# Altium footprint library Footprints.PcbLib: 1 footprints
Each footprint in its own frame and in the unit in brackets; x right, y up, seen from the top. Pads: shape width x height; smd on the part's side, far side on the other; paste and mask are expansions set on the pad; w line width, h text height; cw(c..) or ccw(c..) is an arc to the next point about the centre after c.
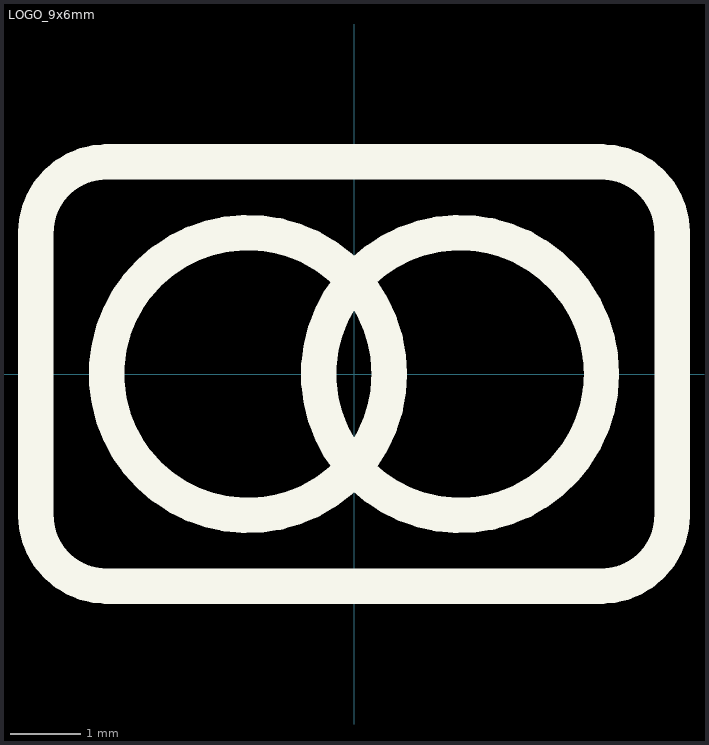
[diagram p0: the footprint, top view; thin cyan lines are the x and y axes]

## LOGO_9x6mm [mm]
Top Overlay:
  circle w0.5: c-1.5,0 r2
  circle w0.5: c1.5,0 r2
  lines w0.5: -4.5,-2 ccw(c-3.5,-2) -3.5,-3 3.5,-3 ccw(c3.5,-2) 4.5,-2 4.5,2 ccw(c3.5,2) 3.5,3 -3.5,3 ccw(c-3.5,2) -4.5,2 -4.5,-2